# EAGLE library part B13B-PH-* (library jst-ph)
Wire-to-Board 2.0mm pitch top mount connector Source: http://www.jst-mfg.com/product/pdf/jpn/PH.pdf http://www.jst-mfg.com/product/detail.php?series=199
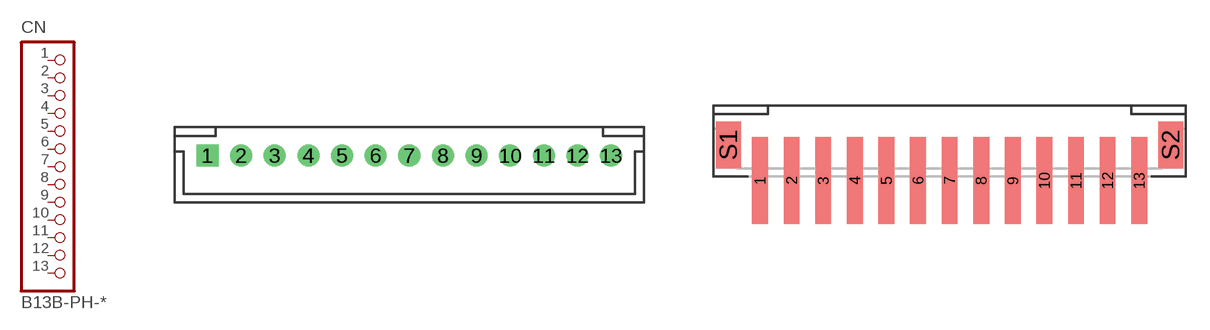
[diagram p7: symbol with the pads of B13B-PH-K-S; footprints B13B-PH-K-S, B13B-PH-SM4-TB]

Designator prefix CN

## B13B-PH-K-S  [B13B-PH-K-S]
1  1  pas
2  2  pas
3  3  pas
4  4  pas
5  5  pas
6  6  pas
7  7  pas
8  8  pas
9  9  pas
10  10  pas
11  11  pas
12  12  pas
13  13  pas

## B13B-PH-SM4-TB  [B13B-PH-SM4-TB]
Pads as for B13B-PH-K-S

## Footprint B13B-PH-K-S (pad centres in mm)
drill 0.8 square: 1 -12,0
drill 0.8: 2 -10,0; 3 -8,0; 4 -6,0; 5 -4,0; 6 -2,0; 7 0,0; 8 2,0; 9 4,0; 10 6,0; 11 8,0; 12 10,0; 13 12,0

## Footprint B13B-PH-SM4-TB (pad centres in mm)
smd 1 x 5.5: 1 -12,-3.05; 2 -10,-3.05; 3 -8,-3.05; 4 -6,-3.05; 5 -4,-3.05; 6 -2,-3.05; 7 0,-3.05; 8 2,-3.05; 9 4,-3.05; 10 6,-3.05; 11 8,-3.05; 12 10,-3.05; 13 12,-3.05
smd 1.6 x 3: S1 -14,-0.8; S2 14,-0.8